# Altium integrated library Sensor.IntLib: 57 symbols
Pins are listed as number, name and electrical type; pins without a type are passive.

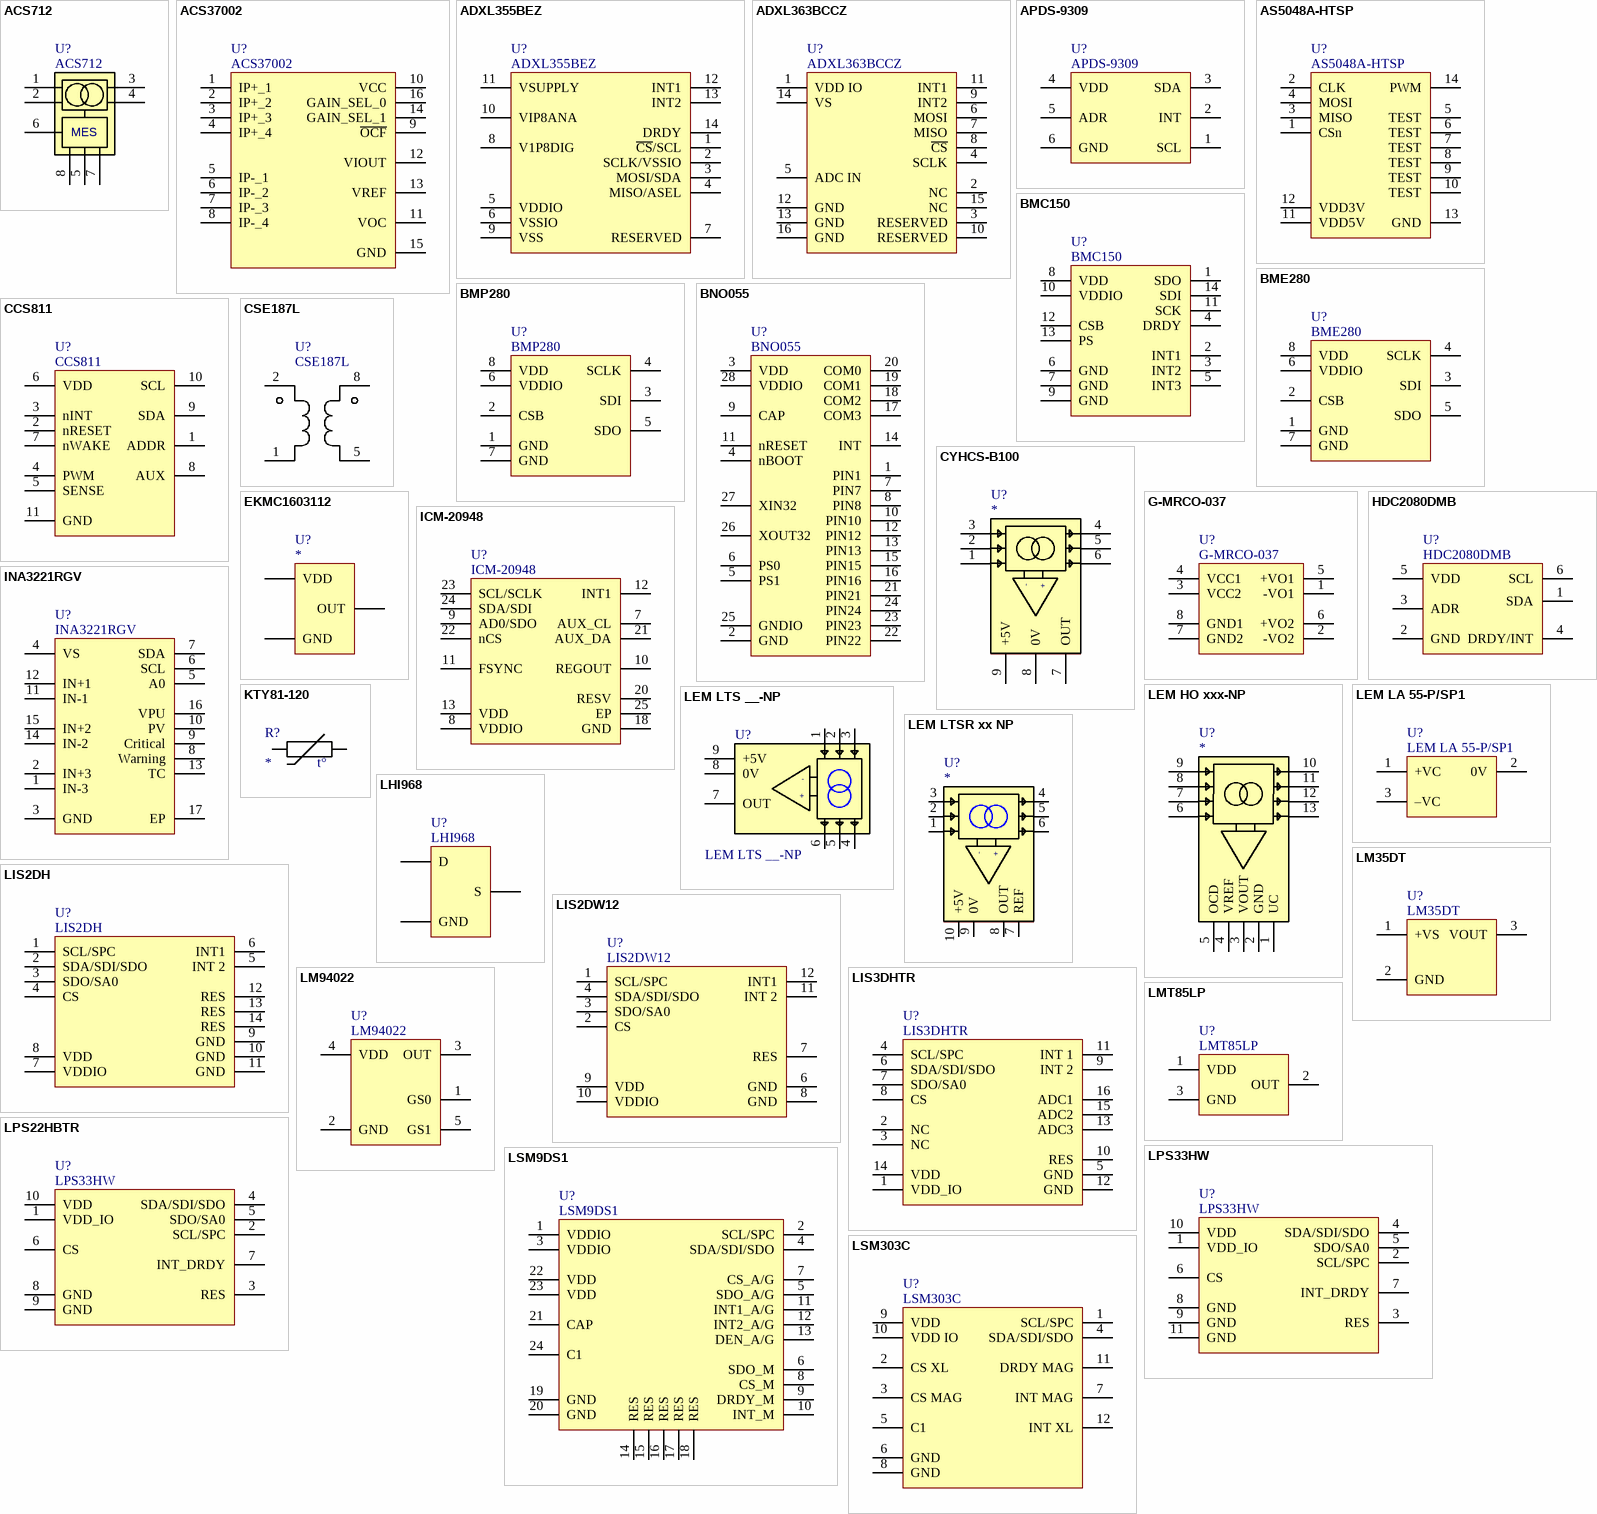
[diagram p0: symbols ACS712 to LSM303C]

## ACS712
designator U?
Hall Effect-Based Linear Current Sensor IC
footprint SO8 P1.27 C4.0X5.0 H1.75 (8-Pin Small Outline Integrated Circuit 1.27 mm Pitch, IPC Medium Density)
pins: 1 IP+, 2 IP+, 3 IP-, 4 IP-, 5 GND, 6 FILTER, 7 VIOUT, 8 VCC
text: MES

## ACS37002
designator U?
400 kHz, High Accuracy Current Sensor; Value: ACS37002
footprint SO16W P1.27 C7.5x10.2 H2.65 (SOIC WIDE, 16-Leads, Body 10.20x7.50mm, Pitch 1.27mm, IPC Medium Density)
pins: 1 IP+_1, 2 IP+_2, 3 IP+_3, 4 IP+_4, 5 IP-_1, 6 IP-_2, 7 IP-_3, 8 IP-_4, 9 ~{OCF}, 10 VCC, 11 VOC, 12 VIOUT, 13 VREF, 14 GAIN_SEL_1, 15 GND, 16 GAIN_SEL_0

## ADXL355BEZ
designator U?
Low Noise, Low Drift, Low Power,  3-Axis MEMS Accelerometers; Value: ADXL355BEZ
footprint LCC14 P1.27 C6.0x6.0 H2.2
pins: 1 ~{CS}/SCL, 2 SCLK/VSSIO, 3 MOSI/SDA, 4 MISO/ASEL, 5 VDDIO, 6 VSSIO, 7 RESERVED, 8 V1P8DIG, 9 VSS, 10 VIP8ANA, 11 VSUPPLY, 12 INT1, 13 INT2, 14 DRDY

## ADXL363BCCZ
designator U?
Micropower 3-Sensor Combination  Including Acceleration and Temperature
footprint ADXL363 (LGA28 C3.2X3.0 H1.2)
pins: 1 VDD IO, 2 NC, 3 RESERVED, 4 SCLK, 5 ADC IN, 6 MOSI, 7 MISO, 8 ~{CS}, 9 INT2, 10 RESERVED, 11 INT1, 12 GND, 13 GND, 14 VS, 15 NC, 16 GND

## APDS-9309
designator U?
Miniature Ambient Light Photo Sensor  with Digital (I2C) Output; Value: APDS-9309
footprint APDS-9309
pins: 1 SCL, 2 INT, 3 SDA, 4 VDD, 5 ADR, 6 GND

## AS5048A-HTSP
designator U?
Angle position sensor with a  14-bit high resolution; Value: AS5048A-HTSP
footprint TSSOP14 P0.65 C4.4x5.0 H1.1 (TSSOP, 14-Leads, Body 5x4.4mm, Pitch 0.65mm, IPC Medium Density)
pins: 1 CSn "SPI chip select - active low", 2 CLK "SPI clock input", 3 MISO "SPI master in/slave out", 4 MOSI "SPI master out/slave in", 5 TEST "Test pin, see Note", 6 TEST "Test pin, see Note", 7 TEST "Test pin, see Note", 8 TEST "Test pin, see Note", 9 TEST "Test pin, see Note", 10 TEST "Test pin, see Note", 11 VDD5V "Positive Supply Voltage, 3.0 to 5.5 V", 12 VDD3V "3.3V Regulator output; internally regulated from VDD. Connect to VDD for 3V supply voltage. 10FF capacitor to GND required in 5V operation mode", 13 GND "Negative Supply Voltage (GND)", 14 PWM "Pulse Width Modulation output"

## BMC150
designator U?
6-axis eCompass; Value: BMC150
footprint BMC150 (LGA14 C2.2X2.2 H1.0)
pins: 1 SDO, 2 INT1, 3 INT2, 4 DRDY, 5 INT3, 6 GND, 7 GND, 8 VDD, 9 GND, 10 VDDIO, 11 SCK, 12 CSB, 13 PS, 14 SDI

## BME280
designator U?
Combined humidity and pressure sensor; Value: BME280
footprint BME280 (Combined humidity and pressure sensor)
pins: 1 GND, 2 CSB, 3 SDI, 4 SCLK, 5 SDO, 6 VDDIO, 7 GND, 8 VDD

## BMP280
designator U?
Digital Pressure Sensor; Value: BMP280
footprint BMP280 (Digital Pressure Sensor)
pins: 1 GND, 2 CSB, 3 SDI, 4 SCLK, 5 SDO, 6 VDDIO, 7 GND, 8 VDD

## BNO055
designator U?
Intelligent 9-axis absolute orientation sensor; Value: BNO055
footprint BNO055
pins: 1 PIN1, 2 GND, 3 VDD, 4 nBOOT, 5 PS1, 6 PS0, 7 PIN7, 8 PIN8, 9 CAP, 10 PIN10, 11 nRESET, 12 PIN12, 13 PIN13, 14 INT, 15 PIN15, 16 PIN16, 17 COM3, 18 COM2, 19 COM1, 20 COM0, 21 PIN21, 22 PIN22, 23 PIN23, 24 PIN24, 25 GNDIO, 26 XOUT32, 27 XIN32, 28 VDDIO

## CCS811
designator U?
Ultra-low power digital gas sensor; Value: CCS811
footprint CCS811
pins: 1 ADDR, 2 nRESET, 3 nINT, 4 PWM, 5 SENSE, 6 VDD, 7 nWAKE, 8 AUX, 9 SDA, 10 SCL, 11 GND

## CSE187L
designator U?
Current Sense / Low Frequency Transformers; Manufacturer: Triad Magnetics; Mouser No.: 553-CSE187L; Value: CSE187L
footprint CSE187L (Current Sense / Low Frequency Transformers)
pins: 1, 2, 5, 8

## CYHCS-B100
designator U?
Hall Effect-Based Linear Current Sensor IC; Value: *
footprint LTSR xx NP (Current Sensor, LTSR xx NP, Body 10.00x22.20x24.00mm)
pins: 1 PWR_IN1, 2 PWR_IN2, 3 PWR_IN3, 4 PWR_OUT3, 5 PWR_OUT2, 6 PWR_OUT1, 7 OUT, 8 0V, 9 +5V
text: -; +

## EKMC1603112
designator U?
PIR MOTION SENSOR; Value: *
footprint EKMC1603112 (Footprint not found)
pins: 1 VDD, 2 OUT, 3 GND

## G-MRCO-037
designator U?
Magnetic Angle Sensor; Value: G-MRCO-037
footprint SO8 P1.27 C4.0X5.0 H1.75 (8-Pin Small Outline Integrated Circuit 1.27 mm Pitch, IPC Medium Density)
pins: 1 -VO1, 2 -VO2, 3 VCC2, 4 VCC1, 5 +VO1, 6 +VO2, 7 GND2, 8 GND1

## HDC2080DMB
designator U?
Low Power Humidity and Temperature Digital Sensor; Value: HDC2080DMB
footprint HDC2080 (6-Pin Wide Small Outline Integrated Circuit 0.95mm Pitch)
pins: 1 SDA, 2 GND, 3 ADR, 4 DRDY/INT, 5 VDD, 6 SCL

## ICM-20948
designator U?
9-Axis MEMS MotionTracking device; Value: ICM-20948
footprint QFN24 P0.4 T1.7X1.6 C3.0X3.0 H1.0 (QFN, 24-Leads, Body 3.0x3.0mm, Pitch 0.40mm, Thermal Pad 1.70x1.6mm, IPC Medium Density)
pins: 7 AUX_CL "I2C Master serial clock, for connecting to external sensors", 8 VDDIO "Digital I/O supply voltage", 9 AD0/SDO, 10 REGOUT "Regulator filter capacitor connection", 11 FSYNC "Frame synchronization digital input. Connect to GND if unused", 12 INT1 "Interrupt 1", 13 VDD "Power supply voltage", 18 GND "Power supply ground", 20 RESV, 21 AUX_DA "I2C master serial data, for connecting to external sensors", 22 nCS "Chip select (SPI mode only)", 23 SCL/SCLK "I2C serial clock (SCL); SPI serial clock (SCLK)", 24 SDA/SDI "I2C serial data (SDA); SPI serial data input (SDI)", 25 EP

## INA3221RGV
designator U?
Energy Efficient, Low Power Off-line Switchers - Power Integrations; Value: INA3221RGV
footprint QFN16 P0.5 T2.2x2.2 C4.0X4.0 H1.0
pins: 1 IN-3, 2 IN+3, 3 GND, 4 VS, 5 A0, 6 SCL, 7 SDA, 8 Warning, 9 Critical, 10 PV, 11 IN-1, 12 IN+1, 13 TC, 14 IN-2, 15 IN+2, 16 VPU, 17 EP

## KTY81-120
designator R?
Silicon temperature sensors with positive coefficient; value: *
footprint TO92-2 P2.54 (TO92, Diameter  5mm, Height 9mm)
pins: 1, 2
text: t°

## LEM HO xxx-NP
designator U?
Hall Effect-Based Linear Current Sensor IC; Value: *
footprint NO xxx-NP (Current Transducer HO-NP series)
pins: 1 UC, 2 GND, 3 VOUT, 4 VREF, 5 OCD, 6 IP6, 7 IP7, 8 IP8, 9 IP9, 10 IP10, 11 IP11, 12 IP12, 13 IP13

## LEM LA 55-P/SP1
designator U?
Current Transducer; Value: LEM LA 55-P/SP1
footprint LA 55-P/SP1 (Current Sensor, LA 55-P/SP1, Body 36.5x14.6x27.6mm)
pins: 1 +VC, 2 0V, 3 –VC

## LEM LTS __-NP
designator U?
Hall Effect-Based Linear Current Sensor IC; Value: LEM LTS __-NP
footprint LTS xx NP (Current Sensor, LTS xx NP, Body 10.00x22.20x24.00mm)
pins: 1 PWR_IN1, 2 PWR_IN2, 3 PWR_IN3, 4 PWR_OUT3, 5 PWR_OUT2, 6 PWR_OUT1, 7 OUT, 8 0V, 9 +5V
text: -; +

## LEM LTSR xx NP
designator U?
Hall Effect-Based Linear Current Sensor IC; Value: *
footprint LTSR xx NP (Current Sensor, LTSR xx NP, Body 10.00x22.20x24.00mm)
pins: 1 PWR_IN1, 2 PWR_IN2, 3 PWR_IN3, 4 PWR_OUT3, 5 PWR_OUT2, 6 PWR_OUT1, 7 REF, 8 OUT, 9 0V, 10 +5V
text: -; +

## LHI968
designator U?
Pyroelectric detectors
footprint LHI968 Excelitas With IML-0638 (LHI968 Excelitas TO-5 With Murata IML-0638)
footprint LHI968 Excelitas TO-5
pins: D, GND, S

## LIS2DH
designator U?
MEMS digital output motion sensor; Value: LIS2DH
footprint LIS2DH (LGA, 14-Leads, Body 2x2mm, Pitch 0.35mm)
pins: 1 SCL/SPC "Power supply for I/O pins", 2 SDA/SDI/SDO, 3 SDO/SA0 "Not connected", 4 CS "Not connected", 5 INT 2 "Interrupt 1/ DRDY", 6 INT1 "0 V supply", 7 VDDIO "Connect to GND", 8 VDD "Interrupt 2", 9 GND, 10 GND, 11 GND "SPI enable", 12 RES, 13 RES, 14 RES "SPI enable"

## LIS2DW12
designator U?
MEMS digital output motion sensor; Value: LIS2DW12
footprint LIS2DW12 (LGA, 12-Leads, Body 2.005x2.00mm, Pitch 0.5mm, IPC Medium Density)
pins: 1 SCL/SPC "Power supply for I/O pins", 2 CS "Not connected", 3 SDO/SA0 "Not connected", 4 SDA/SDI/SDO, 6 GND, 7 RES, 8 GND "SPI enable", 9 VDD "Interrupt 2", 10 VDDIO "Connect to GND", 11 INT 2 "Interrupt 1/ DRDY", 12 INT1 "0 V supply"

## LIS3DHTR
designator U?
MEMS digital output motion sensor; Value: LIS3DHTR
footprint LIS3DH (LGA, 16-Leads, Body 3.15x3.15mm, Pitch 0.5mm, IPC Medium Density)
pins: 1 VDD_IO "Power supply for I/O pins", 2 NC "Not connected", 3 NC "Not connected", 4 SCL/SPC, 5 GND "0 V supply", 6 SDA/SDI/SDO, 7 SDO/SA0, 8 CS "SPI enable", 9 INT 2 "Interrupt 2", 10 RES "Connect to GND", 11 INT 1 "Interrupt 1/ DRDY", 12 GND "0 V supply", 13 ADC3 "0 V supply", 14 VDD "Power supply", 15 ADC2 "Connect to Vdd, connect to GND, or leave unconnected", 16 ADC1 "0 V supply"

## LM35DT
designator U?
Precision Centigrade Temperature Sensors
footprint SOT23-6 P0.95 C1.5x3.0 H1.3 (SOT23, 6-Leads, Body 1.6x3.0mm, Pitch 0.95mm, IPC Medium Density)
pins: 1 +VS, 2 GND, 3 VOUT

## LM94022
designator U?
Multi-Gain Analog Temperature Sensor With Class-AB Output; Value: LM94022
footprint SC70-5 P0.65 C1.4x2.2 H1.0 (SC70, 5-Leads, Body 2.2x1.40mm, Pitch 0.65mm, IPC Medium Density)
pins: 1 GS0, 2 GND, 3 OUT, 4 VDD, 5 GS1

## LMT85LP
designator U?
Analog Temperature Sensor; Value: LMT85LP
footprint TO92 (TO92, Diameter  5mm, Height 9mm)
pins: 1 VDD, 2 OUT, 3 GND

## LPS22HBTR
designator U?, comment LPS33HW
MEMS pressure sensor: 260-1260 hPa absolute digital output barometer; Value: LPS33HW
footprint HLGA-10L (HLGA, 10-Leads, Body 2.0x2.0mm, Pitch 0.5mm)
pins: 1 VDD_IO, 2 SCL/SPC, 3 RES, 4 SDA/SDI/SDO, 5 SDO/SA0, 6 CS, 7 INT_DRDY, 8 GND, 9 GND, 10 VDD

## LPS33HW
designator U?
MEMS pressure sensor: 260-1260 hPa absolute digital output barometer; Value: LPS33HW
footprint LPS33HW (CCLGA10 C3.3X3.3 H2.9)
pins: 1 VDD_IO, 2 SCL/SPC, 3 RES, 4 SDA/SDI/SDO, 5 SDO/SA0, 6 CS, 7 INT_DRDY, 8 GND, 9 GND, 10 VDD, 11 GND

## LSM9DS1
designator U?
3D accelerometer, 3D gyroscope, 3D magnetometer; Value: LSM9DS1
footprint LSM9DS1 (LGA24 P0.5 C3.5X3.0 H1.0)
pins: 1 VDDIO, 2 SCL/SPC, 3 VDDIO, 4 SDA/SDI/SDO, 5 SDO_A/G, 6 SDO_M, 7 CS_A/G, 8 CS_M, 9 DRDY_M, 10 INT_M, 11 INT1_A/G, 12 INT2_A/G, 13 DEN_A/G, 14 RES, 15 RES, 16 RES, 17 RES, 18 RES, 19 GND, 20 GND, 21 CAP, 22 VDD, 23 VDD, 24 C1

## LSM303C
designator U?
Ultra-compact high-performance eCompass module; Value: LSM303C
footprint LSM303C (LGA12 P0.5 C2.02X2.0 H1.0)
pins: 1 SCL/SPC, 2 CS XL, 3 CS MAG, 4 SDA/SDI/SDO, 5 C1, 6 GND, 7 INT MAG, 8 GND, 9 VDD, 10 VDD IO, 11 DRDY MAG, 12 INT XL

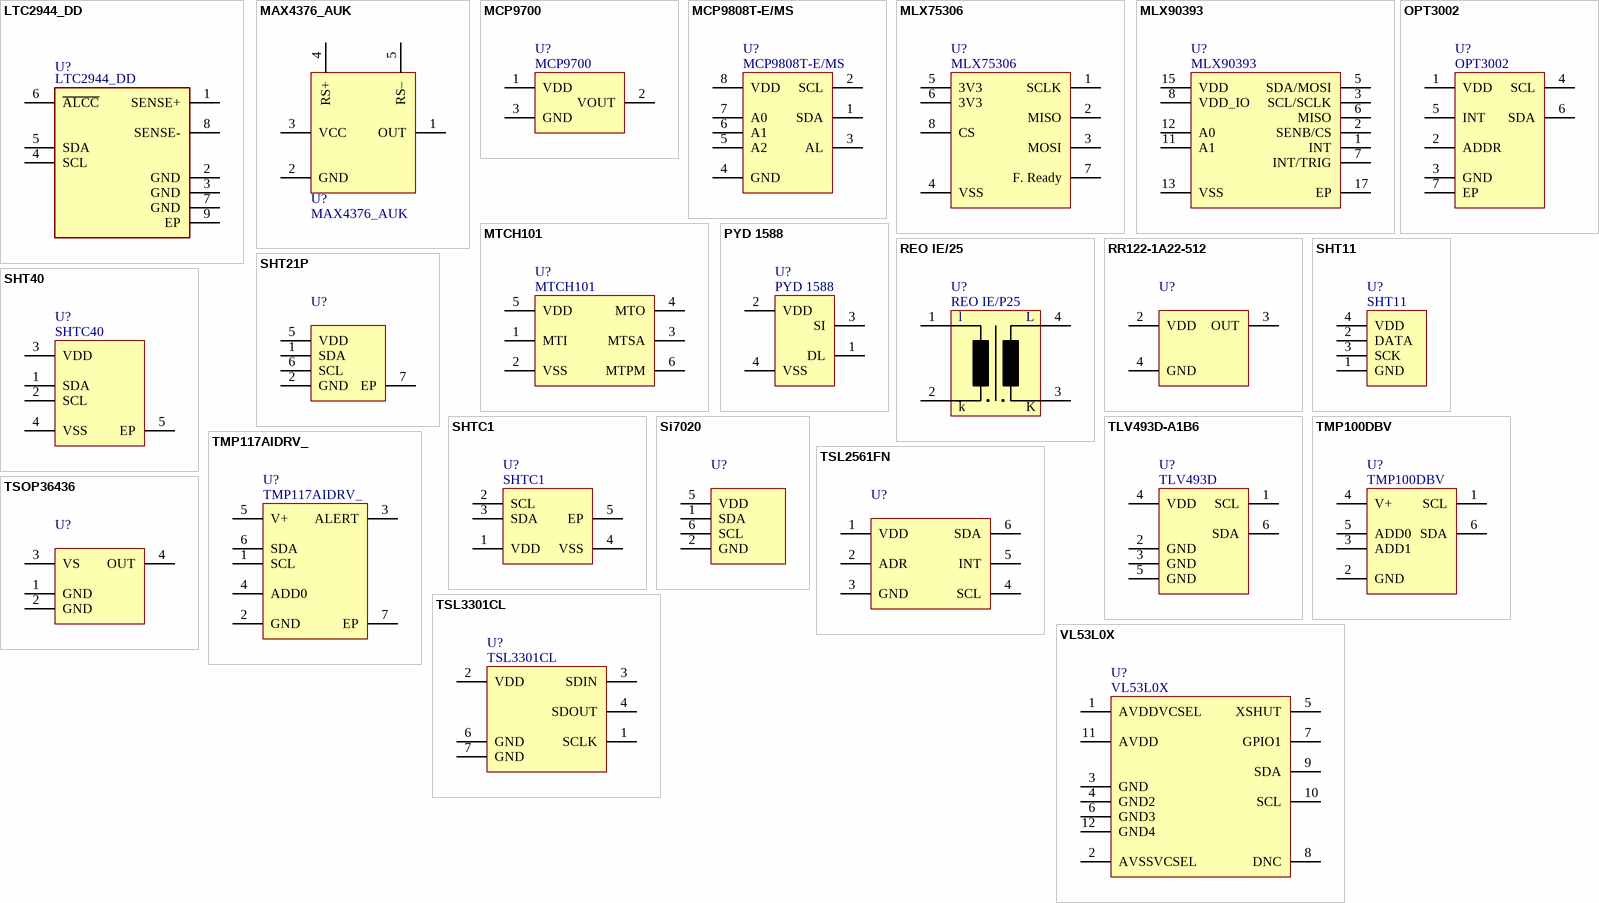
[diagram p1: symbols LTC2944_DD to VL53L0X]

## LTC2944_DD
designator U?
60V Battery Gas Gauge with Temperature, Voltage and Current Measurement; Value: LTC2944_DD
footprint DFN8 P0.5 T1.65X2.48 C3.0X3.0 H0.8 (DFN 8-Leads, Body 3.00x3.00mm, Pitch 0.5mm, IPC Medium Density)
pins: 1 SENSE+, 2 GND, 3 GND, 4 SCL, 5 SDA, 6 ~{ALCC}, 7 GND, 8 SENSE-, 9 EP

## MAX4376_AUK
designator U?
High-Side Current-Sense  Amplifiers with Internal Gain; Value: MAX4376_AUK
footprint SOT23-5 P0.95 C1.6x3.0 H1.3 (SOT23, 5-Leads, Body 1.6x3.0mm, Pitch 0.95mm, IPC Medium Density)
pins: 1 OUT, 2 GND, 3 VCC, 4 RS+, 5 RS–

## MCP9700
designator U?
Low-Power Linear Active Thermistor ICs; Value: MCP9700
footprint TO92 (TO92, Diameter  5mm, Height 9mm)
pins: 1 VDD, 2 VOUT, 3 GND

## MCP9808T-E/MS
designator U?
Low Power 3D Magnetic Sensor with I2C Interface; Value: MCP9808T-E/MS
footprint MSOP8 P0.65 C3.0X3.0 H1.1 (MSOP, 8-Leads, Body 3.00x3.00mm, Pitch 0.65mm, IPC Medium Density)
pins: 1 SDA, 2 SCL, 3 AL, 4 GND, 5 A2, 6 A1, 7 A0, 8 VDD

## MLX75306
designator U?
Linear optical sensor array; Value: MLX75306
footprint MLX75306 (SOIC, 16-Leads, Body 4.0x10.20mm, Pitch 1.27mm, IPC Medium Density)
pins: 1 SCLK, 2 MISO, 3 MOSI, 4 VSS, 5 3V3, 6 3V3, 7 F. Ready, 8 CS

## MLX90393
designator U?
Triaxis Magnetic Node; Value: MLX90393
footprint QFN16 P0.5 T1.5x1.5 C3.0x3.0 H1.0
pins: 1 INT, 2 SENB/CS, 3 SCL/SCLK, 5 SDA/MOSI, 6 MISO, 7 INT/TRIG, 8 VDD_IO, 11 A1, 12 A0, 13 VSS, 15 VDD, 17 EP

## MTCH101
designator U?
Single-Channel Proximity Detector
footprint SOT23-6 P0.95 C1.5x3.0 H1.3 (SOT23, 6-Leads, Body 1.6x3.0mm, Pitch 0.95mm, IPC Medium Density)
pins: 1 MTI, 2 VSS, 3 MTSA, 4 MTO, 5 VDD, 6 MTPM

## OPT3002
designator U?
Light-to-Digital Sensor; Value: OPT3002
footprint OPT3002 (USON6, 6-Leads, Body 2x2mm, Pitch 0.65mm, Thermal Pad 0.65x1.35mm)
pins: 1 VDD, 2 ADDR, 3 GND, 4 SCL, 5 INT, 6 SDA, 7 EP

## PYD 1588
designator U?
Pyroelectric detectors; Value: PYD 1588
footprint PYD1588 Excelitas TO-5 (LHI968 Excelitas TO-5)
pins: 1 DL, 2 VDD, 3 SI, 4 VSS

## REO IE/25
designator U?, comment REO IE/P25
Current Sensor, REO Series IE/25; Value: REO IE/P25
footprint REO IE/25 (Current Sensor, REO Series IE/25)
pins: 1 l, 2 k, 3 K, 4 L

## RR122-1A22-512
designator U?  (value not drawn)
TMR DIGITAL PUSHfiPULL MAGNETIC SENSOR; Value: RR122-1A22-512
footprint LGA4 P0.65 C1.5X1.5 H0.45 (LGA 4-Leads, Pitch 0.65mm,, Body 1.50x1.50mm)
pins: 2 VDD, 3 OUT, 4 GND

## SHT11
designator U?
Humidity and Temperature Sensor IC
footprint SHT11
pins: 1 GND, 2 DATA, 3 SCK, 4 VDD, 5 hidden, 6 hidden, 7 hidden, 8 hidden

## SHT21P
designator U?  (value not drawn)
Humidity and Temperature Sensor IC
footprint SHT21P (SHT21P DFN6 SENSIRION)
pins: 1 SDA, 2 GND, 3 hidden, 4 hidden, 5 VDD, 6 SCL, 7 EP

## SHT40
designator U?, comment SHTC40
High-Accuracy, Ultra-Low-Power, 16-bit Relative Humidity and Temperature Sensor Platform; Value: SHTC40
footprint SHT40 (DFN, 4-Leads, Body 1.5x1.5mm, Pitch 0.8mm, Thermal Pad 1.0x0.4mm)
pins: 1 SDA "Serial data, bidirectional", 2 SCL "Serial clock, bidirectional", 3 VDD "Supply voltage", 4 VSS "Ground", 5 EP

## SHTC1
designator U?
Humidity and temperature Sensor IC; Value: SHTC1
footprint SHTC1 (DFN, 4-Leads, Body 2x2mm, Pitch 1mm, Thermal Pad 1.6x0.7mm)
pins: 1 VDD "Supply voltage", 2 SCL "Serial clock, bidirectional", 3 SDA "Serial data, bidirectional", 4 VSS "Ground", 5 EP

## Si7020
designator U?  (value not drawn)
Humidity and Temperature Sensor
footprint Si7020 (Si7020, DFN6, Body 3.0x3.0, pitch 1.0mm)
pins: 1 SDA, 2 GND, 3 hidden, 4 hidden, 5 VDD, 6 SCL

## TLV493D-A1B6
designator U?, comment TLV493D
Low Power 3D Magnetic Sensor with I2C Interface; Value: TLV493D
footprint TLV493 (SOT23, 6-Leads, Body 1.6x3.0mm, Pitch 0.95mm, IPC Medium Density)
pins: 1 SCL, 2 GND, 3 GND, 4 VDD, 5 GND, 6 SDA

## TMP100DBV
designator U?
Temperature Sensor With I2C and SMBus Interface; Value: TMP100DBV
footprint SOT23-6 P0.95 C1.5x3.0 H1.3 (SOT23, 6-Leads, Body 1.6x3.0mm, Pitch 0.95mm, IPC Medium Density)
pins: 1 SCL, 2 GND, 3 ADD1, 4 V+, 5 ADD0, 6 SDA

## TMP117AIDRV_
designator U?
high-accuracy,low-power,digital temperature sensor; Value: TMP117AIDRV_
footprint WSON6  P0.65 T1.6X1.0 C2.0X2.0 H0.8 (6-Pin Wide Small Outline Integrated Circuit 0.65mm Pitch)
pins: 1 SCL, 2 GND, 3 ALERT, 4 ADD0, 5 V+, 6 SDA, 7 EP

## TSL2561FN
designator U?  (value not drawn)
Light to Digital  Converter; Value: TSL2561FN
footprint TSL2561FN
pins: 1 VDD, 2 ADR, 3 GND, 4 SCL, 5 INT, 6 SDA

## TSL3301CL
designator U?
Linear Optical Sensor Array 102 × 1; Value: TSL3301CL
footprint TSL3301CL (Body 9.4x3.0mm, 8pins)
pins: 1 SCLK, 2 VDD, 3 SDIN, 4 SDOUT, 6 GND, 7 GND

## TSOP36436
designator U?  (value not drawn)
IR Receiver Module; Value: TSOP36436
footprint TSOP36436 Horizontal (7.5x5.3mm case)
footprint TSOP36436 Vertical (7.5x5.3mm case)
pins: 1 GND, 2 GND, 3 VS, 4 OUT

## VL53L0X
designator U?
Ultra-compact high-performance eCompass module; Value: VL53L0X
footprint VL53L0X (LGA12 P0.8 C4.4X2.4 H1.0)
pins: 1 AVDDVCSEL, 2 AVSSVCSEL, 3 GND, 4 GND2, 5 XSHUT, 6 GND3, 7 GPIO1, 8 DNC, 9 SDA, 10 SCL, 11 AVDD, 12 GND4